# Altium footprint library Connectors.PcbLib: 26 footprints (part 1 of 2)
Each footprint in its own frame and in the unit in brackets; x right, y up, seen from the top. Pads: shape width x height; smd on the part's side, far side on the other; paste and mask are expansions set on the pad; w line width, h text height; cw(c..) or ccw(c..) is an arc to the next point about the centre after c.
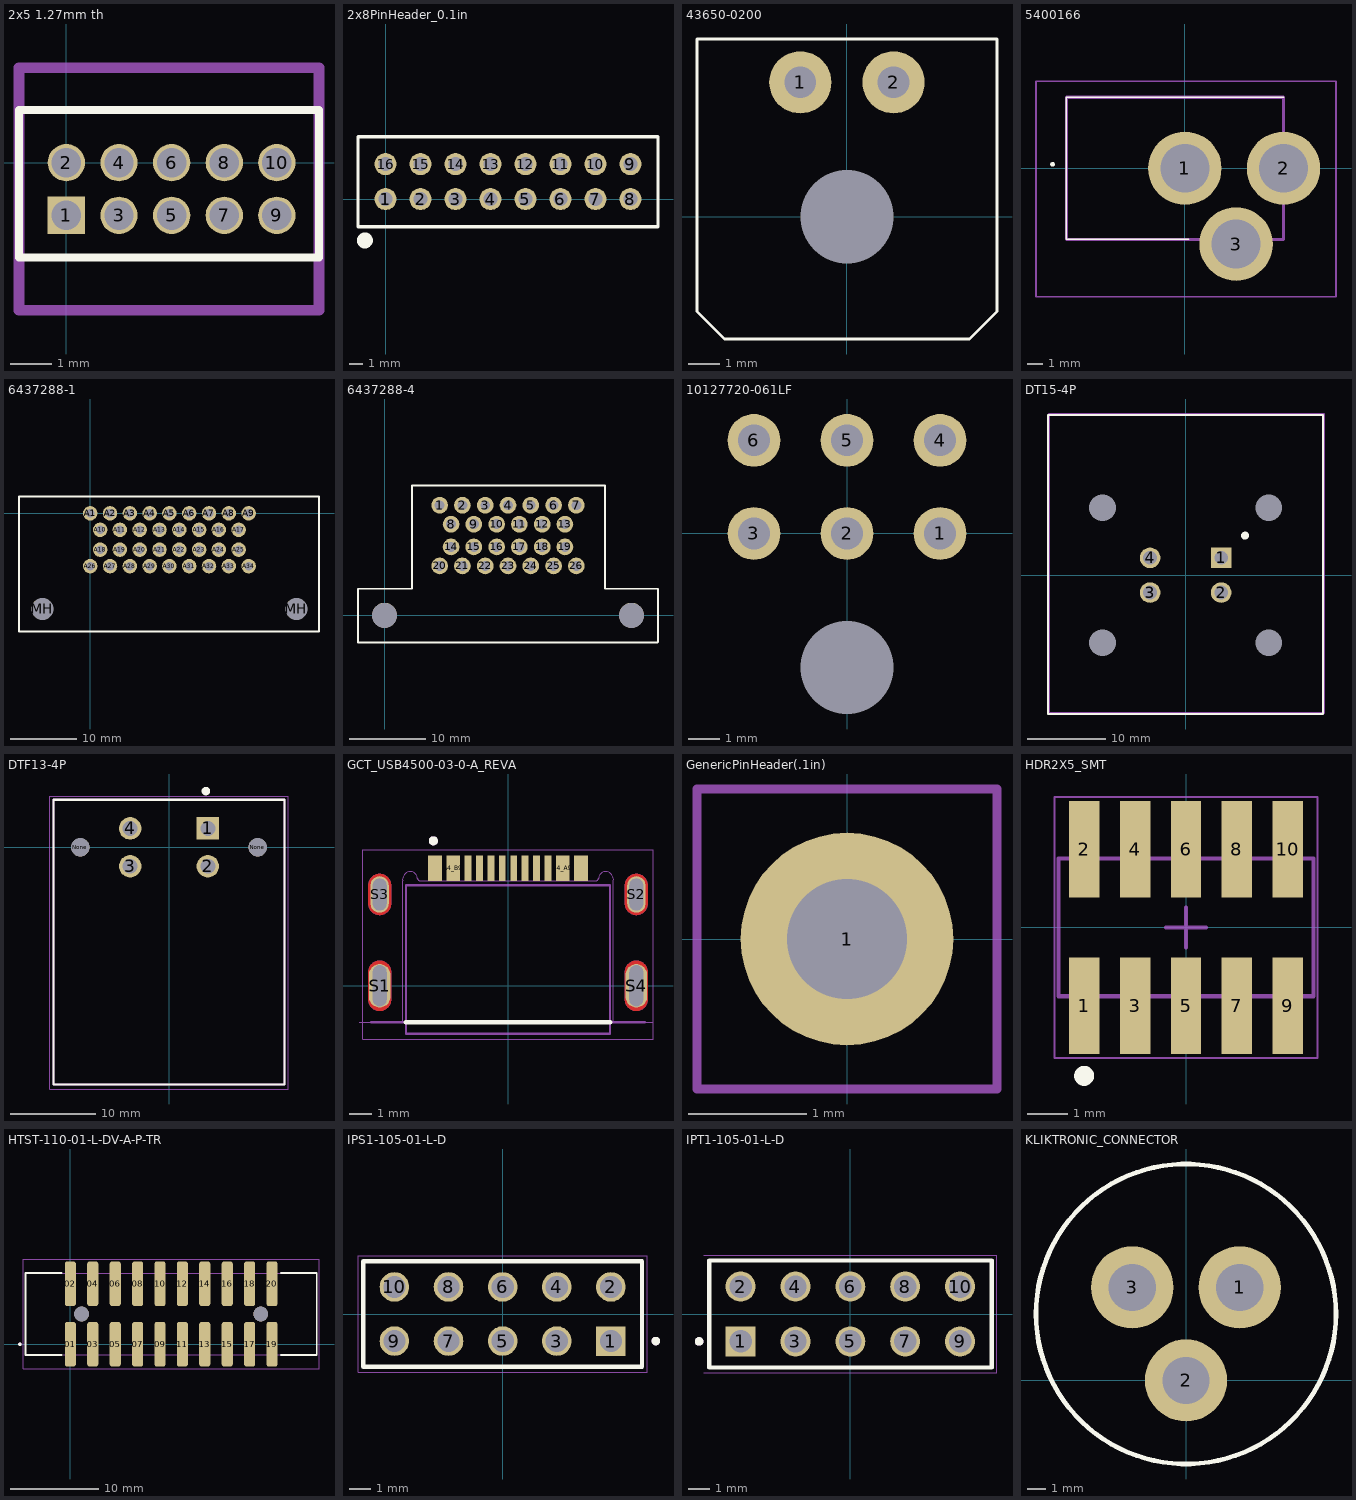
[diagram p0: the footprints below, top view; thin cyan lines are the x and y axes]

## 2x5 1.27mm th [mm]
pads (10):
  rect 0.9x0.9 hole 0.71: 1(0,-1.27)
  round 0.9 hole 0.71: 2(0,0) 3(1.27,-1.27) 4(1.27,0) 5(2.54,-1.27) 6(2.54,0) 7(3.81,-1.27) 8(3.81,0) 9(5.08,-1.27) 10(5.08,0)
Top Overlay:
  lines w0.2: -1.143,-2.286 6.096,-2.286 6.096,1.27 -1.143,1.27 -1.143,-2.286
Mechanical 15:
  lines w0.254: -1.143,-3.556 -1.143,2.286 6.096,2.286 6.096,-3.556 -1.143,-3.556
3D body "FTSH-105-01-F-D-K.stp": height 5.71, standoff -2.29, extent -0.635,-3.175 5.715,1.905

## 2x8PinHeader_0.1in [mm] "Generic 2x8 (16pin) 0.1mm pitch pin header"
pads (16):
  round 1.6 hole 1.02: 1(0,0) 2(2.54,0) 3(5.08,0) 4(7.62,0) 5(10.16,0) 6(12.7,0) 7(15.24,0) 8(17.78,0) 9(17.78,2.54) 10(15.24,2.54) 11(12.7,2.54) 12(10.16,2.54) 13(7.62,2.54) 14(5.08,2.54) 15(2.54,2.54) 16(0,2.54)
Top Overlay:
  circle w1: c-1.5,-3 r0.075
  lines w0.254: -2,-2 -2,4.54 19.78,4.54 19.78,-2 -2,-2
3D body "PPTC082LFBN-RC.STEP": height 8.5, standoff -3.2, extent -1.3,-1.2 19.52,3.8

## 43650-0200 [mm] "MOLEX-43650-0200, 2PIN"
height 5.6
pads (3):
  round 2 hole 1.02: 1(-1.5,4.32) 2(1.5,4.32)
  round 0 hole 3 unplated: MH(0,0)
Top Overlay:
  lines w0.1: -4.822,-3.052 -4.822,5.715 4.826,5.715 4.826,-3.05 3.941,-3.935 -3.939,-3.935 -4.822,-3.052
3D body "436500200.stp": height 5.62, standoff -3.29, extent -4.825,-4.58 4.825,5.32

## 5400166 [mm]
pads (3):
  round 4.65 hole 3.1: 1(0,0) 2(6.25,0) 3(3.25,-4.8)
Top Overlay:
  lines w0.1: -7.5,-4.5 -7.5,4.5 ; -7.5,-4.5 -7.5,4.5 ; -7.5,-4.5 0.25,-4.5 -7.5,-4.5 ; -7.5,4.5 6.25,4.5 -7.5,4.5
  lines w0.2: -8.425,0.25 ccw(c-8.375,0.25) -8.325,0.25 ; -8.425,0.25 cw(c-8.375,0.25) -8.325,0.25 ; -8.425,0.25 ccw(c-8.375,0.25) -8.325,0.25
Mechanical 13:
  lines w0.2: -7.5,-4.5 6.25,-4.5 6.25,4.5 -7.5,4.5 -7.5,-4.5
Mechanical 15:
  lines w0.1: -9.425,-8.125 9.575,-8.125 9.575,5.5 -9.425,5.5 -9.425,-8.125
3D body "54-00166.stp": height 11.3, standoff -5, extent -7.5,-6.239 7.7,4.5

## 6437288-1 [mm]
pads (36):
  round 2.2 hole 1.3: A1(0,0) A2(3,0) A3(6,0) A4(9,0) A5(12,0) A6(15,0) A7(18,0) A8(21,0) A9(24,0) A10(1.5,-2.5) A11(4.5,-2.5) A12(7.5,-2.5) A13(10.5,-2.5) A14(13.5,-2.5) A15(16.5,-2.5) A16(19.5,-2.5) A17(22.5,-2.5) A18(1.5,-5.5) A19(4.5,-5.5) A20(7.5,-5.5) A21(10.5,-5.5) A22(13.5,-5.5) A23(16.5,-5.5) A24(19.5,-5.5) A25(22.5,-5.5) A26(0,-8) A27(3,-8) A28(6,-8) A29(9,-8) A30(12,-8) A31(15,-8) A32(18,-8) A33(21,-8) A34(24,-8)
  round 3.3 hole 3.3 unplated: MH(-7.25,-14.5) MH(31.25,-14.5)
Top Overlay:
  lines w0.254: -10.795,-17.907 34.671,-17.907 34.671,2.54 -10.795,2.54 -10.795,-17.907
3D body "c-6437288-1-c-3d.stp": height 28.16, standoff -3.99, extent -10.75,-34 34.75,2.5

## 6437288-4 [mm]
pads (28):
  round 2.2 hole 1.3: 1(7.25,14.5) 2(10.25,14.5) 3(13.25,14.5) 4(16.25,14.5) 5(19.25,14.5) 6(22.25,14.5) 7(25.25,14.5) 8(8.75,12) 9(11.75,12) 10(14.75,12) 11(17.75,12) 12(20.75,12) 13(23.75,12) 14(8.75,9) 15(11.75,9) 16(14.75,9) 17(17.75,9) 18(20.75,9) 19(23.75,9) 20(7.25,6.5) 21(10.25,6.5) 22(13.25,6.5) 23(16.25,6.5) 24(19.25,6.5) 25(22.25,6.5) 26(25.25,6.5)
  round 3.3 hole 3.3 unplated: ""(0,0) ""(32.5,0)
Top Overlay:
  lines w0.254: -3.5,-3.561 35.966,-3.561 ; -3.5,-3.5 -3.5,3.5 ; -3.487,3.5 3.513,3.5 ; 3.6,3.525 3.6,17.025 ; 3.607,17.074 29,17.074 ; 29,17 29,3.5 36,3.5 36,-3.5
3D body "c-6437288-4-o4-3d.stp": height 27.91, standoff -3.99, extent -3.45,-19.5 36.05,17

## 10127720-061LF [mm] "CONN HEADER R/A 6POS 3MM"
pads (7):
  round 1.7 hole 1.02: 1(3,0) 2(0,0) 3(-3,0) 4(3,3) 5(0,3) 6(-3,3)
  round 0 hole 3 unplated: ""(0,-4.32)
3D body "10127720-06xlfc.stp": height 8.65, standoff -3.2, extent -6.304,-8.925 6.296,3.325

## DT15-4P [mm]
pads (8):
  rect 2.64x2.64 hole 1.76: 1(4.56,2.225)
  round 2.64 hole 1.76: 2(4.56,-2.225) 3(-4.56,-2.225) 4(-4.56,2.225)
  round 1 hole 3.429 unplated: ""(-10.67,-8.65) ""(-10.67,8.65) ""(10.67,-8.65) ""(10.67,8.65)
Top Overlay:
  circle w0.5: c7.62,5.08 r0.25
  lines w0.254: -17.625,-17.802 -17.625,20.548 17.625,20.548 17.625,-17.802 -17.625,-17.802
Mechanical 4:
  lines w0.254: -17.523,-17.676 -17.523,20.674 ; -17.523,-17.676 17.727,-17.676 ; -17.523,-17.676 -17.523,20.674 ; -17.523,-17.676 17.727,-17.676 ; -17.523,20.674 17.727,20.674 ; -17.523,20.674 17.727,20.674 ; 17.727,-17.676 17.727,20.674 ; 17.727,-17.676 17.727,20.674
3D body "c-dt15-4p-99-3d.stp": height 30.35, standoff -3.1, extent -17.627,-17.677 17.628,20.677

## DTF13-4P [mm]
pads (6):
  rect 2.64x2.64 hole 1.76: 1(4.561,2.223)
  round 2.64 hole 1.76: 2(4.561,-2.227) 3(-4.559,-2.227) 4(-4.559,2.223)
  round 2.16 hole 2.16 unplated: None(-10.415,0) None(10.415,0)
Top Overlay:
  circle w0.5: c4.33,6.6 r0.25
  lines w0.254: -13.59,-27.88 13.59,-27.88 13.59,5.58 -13.59,5.58 -13.59,-27.88
Mechanical 4:
  lines w0.254: -13.59,-27.88 13.59,-27.88 ; -13.59,-27.88 -13.59,5.58 ; -13.59,-27.88 13.59,-27.88 ; -13.59,-27.88 -13.59,5.58 ; -13.59,5.58 13.59,5.58 ; -13.59,5.58 13.59,5.58 ; 13.59,-27.88 13.59,5.58 ; 13.59,-27.88 13.59,5.58
Mechanical 15:
  lines w0.05: -14,-28.4 -14,6 14,6 14,-28.4 -14,-28.4
3D body "DTF13-4P.stp": height 23.53, standoff -3.04, extent -13.589,-27.94 13.589,5.525

## GCT_USB4500-03-0-A_REVA [mm]
pads (16):
  rect 0.6x1.1 smd: A1_B12(-3.2,5.15) A4_B9(-2.4,5.15) B1_A12(3.2,5.15) B4_A9(2.4,5.15)
  rect 0.3x1.1 smd: A5(-1.25,5.15) A6(-0.25,5.15) A7(0.25,5.15) A8(1.25,5.15) B5(1.75,5.15) B6(0.75,5.15) B7(-0.75,5.15) B8(-1.75,5.15)
  oval 0.95x1.9 hole 0.6 slot 1.8 at 90 deg mask+0: S1(-5.62,0) S4(5.62,0)
  oval 0.8x1.6 hole 0.6 slot 1.4 at 90 deg mask+0: S2(5.62,4) S3(-5.62,4)
Top Layer:
  region: 5.646,1.099 5.672,1.097 5.698,1.094 5.724,1.089 5.749,1.083 5.775,1.076 5.799,1.067 5.823,1.057 5.847,1.046 5.87,1.033 5.892,1.019 5.914,1.005 5.935,0.989 5.955,0.972 5.974,0.954 5.992,0.935 6.009,0.915 6.025,0.894 6.039,0.872 6.053,0.85 6.066,0.827 6.077,0.803 6.087,0.779 6.096,0.755 6.103,0.729 6.109,0.704 6.114,0.678 6.117,0.652 6.119,0.626 6.12,0.6 6.12,-0.6 6.119,-0.626 6.117,-0.652 6.114,-0.678 6.109,-0.704 6.103,-0.729 6.096,-0.755 6.087,-0.779 6.077,-0.803 6.066,-0.827 6.053,-0.85 6.039,-0.872 6.025,-0.894 6.009,-0.915 5.992,-0.935 5.974,-0.954 5.955,-0.972 5.935,-0.989 5.914,-1.005 5.892,-1.019 5.87,-1.033 5.847,-1.046 5.823,-1.057 5.799,-1.067 5.775,-1.076 5.749,-1.083 5.724,-1.089 5.698,-1.094 5.672,-1.097 5.646,-1.099 5.62,-1.1 5.594,-1.099 5.568,-1.097 5.542,-1.094 5.516,-1.089 5.491,-1.083 5.465,-1.076 5.441,-1.067 5.417,-1.057 5.393,-1.046 5.37,-1.033 5.348,-1.019 5.326,-1.005 5.305,-0.989 5.285,-0.972 5.266,-0.954 5.248,-0.935 5.231,-0.915 5.215,-0.894 5.201,-0.872 5.187,-0.85 5.174,-0.827 5.163,-0.803 5.153,-0.779 5.144,-0.755 5.137,-0.729 5.131,-0.704 5.126,-0.678 5.123,-0.652 5.121,-0.626 5.12,-0.6 5.12,0.6 5.121,0.626 5.123,0.652 5.126,0.678 5.131,0.704 5.137,0.729 5.144,0.755 5.153,0.779 5.163,0.803 5.174,0.827 5.187,0.85 5.201,0.872 5.215,0.894 5.231,0.915 5.248,0.935 5.266,0.954 5.285,0.972 5.305,0.989 5.326,1.005 5.348,1.019 5.37,1.033 5.393,1.046 5.417,1.057 5.441,1.067 5.465,1.076 5.491,1.083 5.516,1.089 5.542,1.094 5.568,1.097 5.594,1.099 5.62,1.1
  region: -5.594,1.099 -5.568,1.097 -5.542,1.094 -5.516,1.089 -5.491,1.083 -5.465,1.076 -5.441,1.067 -5.417,1.057 -5.393,1.046 -5.37,1.033 -5.348,1.019 -5.326,1.005 -5.305,0.989 -5.285,0.972 -5.266,0.954 -5.248,0.935 -5.231,0.915 -5.215,0.894 -5.201,0.872 -5.187,0.85 -5.174,0.827 -5.163,0.803 -5.153,0.779 -5.144,0.755 -5.137,0.729 -5.131,0.704 -5.126,0.678 -5.123,0.652 -5.121,0.626 -5.12,0.6 -5.12,-0.6 -5.121,-0.626 -5.123,-0.652 -5.126,-0.678 -5.131,-0.704 -5.137,-0.729 -5.144,-0.755 -5.153,-0.779 -5.163,-0.803 -5.174,-0.827 -5.187,-0.85 -5.201,-0.872 -5.215,-0.894 -5.231,-0.915 -5.248,-0.935 -5.266,-0.954 -5.285,-0.972 -5.305,-0.989 -5.326,-1.005 -5.348,-1.019 -5.37,-1.033 -5.393,-1.046 -5.417,-1.057 -5.441,-1.067 -5.465,-1.076 -5.491,-1.083 -5.516,-1.089 -5.542,-1.094 -5.568,-1.097 -5.594,-1.099 -5.62,-1.1 -5.646,-1.099 -5.672,-1.097 -5.698,-1.094 -5.724,-1.089 -5.749,-1.083 -5.775,-1.076 -5.799,-1.067 -5.823,-1.057 -5.847,-1.046 -5.87,-1.033 -5.892,-1.019 -5.914,-1.005 -5.935,-0.989 -5.955,-0.972 -5.974,-0.954 -5.992,-0.935 -6.009,-0.915 -6.025,-0.894 -6.039,-0.872 -6.053,-0.85 -6.066,-0.827 -6.077,-0.803 -6.087,-0.779 -6.096,-0.755 -6.103,-0.729 -6.109,-0.704 -6.114,-0.678 -6.117,-0.652 -6.119,-0.626 -6.12,-0.6 -6.12,0.6 -6.119,0.626 -6.117,0.652 -6.114,0.678 -6.109,0.704 -6.103,0.729 -6.096,0.755 -6.087,0.779 -6.077,0.803 -6.066,0.827 -6.053,0.85 -6.039,0.872 -6.025,0.894 -6.009,0.915 -5.992,0.935 -5.974,0.954 -5.955,0.972 -5.935,0.989 -5.914,1.005 -5.892,1.019 -5.87,1.033 -5.847,1.046 -5.823,1.057 -5.799,1.067 -5.775,1.076 -5.749,1.083 -5.724,1.089 -5.698,1.094 -5.672,1.097 -5.646,1.099 -5.62,1.1
  region: 5.646,4.899 5.672,4.897 5.698,4.894 5.724,4.889 5.749,4.883 5.775,4.876 5.799,4.867 5.823,4.857 5.847,4.846 5.87,4.833 5.892,4.819 5.914,4.805 5.935,4.789 5.955,4.772 5.974,4.754 5.992,4.735 6.009,4.715 6.025,4.694 6.039,4.672 6.053,4.65 6.066,4.627 6.077,4.603 6.087,4.579 6.096,4.555 6.103,4.529 6.109,4.504 6.114,4.478 6.117,4.452 6.119,4.426 6.12,4.4 6.12,3.6 6.119,3.574 6.117,3.548 6.114,3.522 6.109,3.496 6.103,3.471 6.096,3.445 6.087,3.421 6.077,3.397 6.066,3.373 6.053,3.35 6.039,3.328 6.025,3.306 6.009,3.285 5.992,3.265 5.974,3.246 5.955,3.228 5.935,3.211 5.914,3.195 5.892,3.181 5.87,3.167 5.847,3.154 5.823,3.143 5.799,3.133 5.775,3.124 5.749,3.117 5.724,3.111 5.698,3.106 5.672,3.103 5.646,3.101 5.62,3.1 5.594,3.101 5.568,3.103 5.542,3.106 5.516,3.111 5.491,3.117 5.465,3.124 5.441,3.133 5.417,3.143 5.393,3.154 5.37,3.167 5.348,3.181 5.326,3.195 5.305,3.211 5.285,3.228 5.266,3.246 5.248,3.265 5.231,3.285 5.215,3.306 5.201,3.328 5.187,3.35 5.174,3.373 5.163,3.397 5.153,3.421 5.144,3.445 5.137,3.471 5.131,3.496 5.126,3.522 5.123,3.548 5.121,3.574 5.12,3.6 5.12,4.4 5.121,4.426 5.123,4.452 5.126,4.478 5.131,4.504 5.137,4.529 5.144,4.555 5.153,4.579 5.163,4.603 5.174,4.627 5.187,4.65 5.201,4.672 5.215,4.694 5.231,4.715 5.248,4.735 5.266,4.754 5.285,4.772 5.305,4.789 5.326,4.805 5.348,4.819 5.37,4.833 5.393,4.846 5.417,4.857 5.441,4.867 5.465,4.876 5.491,4.883 5.516,4.889 5.542,4.894 5.568,4.897 5.594,4.899 5.62,4.9
  region: -5.594,4.899 -5.568,4.897 -5.542,4.894 -5.516,4.889 -5.491,4.883 -5.465,4.876 -5.441,4.867 -5.417,4.857 -5.393,4.846 -5.37,4.833 -5.348,4.819 -5.326,4.805 -5.305,4.789 -5.285,4.772 -5.266,4.754 -5.248,4.735 -5.231,4.715 -5.215,4.694 -5.201,4.672 -5.187,4.65 -5.174,4.627 -5.163,4.603 -5.153,4.579 -5.144,4.555 -5.137,4.529 -5.131,4.504 -5.126,4.478 -5.123,4.452 -5.121,4.426 -5.12,4.4 -5.12,3.6 -5.121,3.574 -5.123,3.548 -5.126,3.522 -5.131,3.496 -5.137,3.471 -5.144,3.445 -5.153,3.421 -5.163,3.397 -5.174,3.373 -5.187,3.35 -5.201,3.328 -5.215,3.306 -5.231,3.285 -5.248,3.265 -5.266,3.246 -5.285,3.228 -5.305,3.211 -5.326,3.195 -5.348,3.181 -5.37,3.167 -5.393,3.154 -5.417,3.143 -5.441,3.133 -5.465,3.124 -5.491,3.117 -5.516,3.111 -5.542,3.106 -5.568,3.103 -5.594,3.101 -5.62,3.1 -5.646,3.101 -5.672,3.103 -5.698,3.106 -5.724,3.111 -5.749,3.117 -5.775,3.124 -5.799,3.133 -5.823,3.143 -5.847,3.154 -5.87,3.167 -5.892,3.181 -5.914,3.195 -5.935,3.211 -5.955,3.228 -5.974,3.246 -5.992,3.265 -6.009,3.285 -6.025,3.306 -6.039,3.328 -6.053,3.35 -6.066,3.373 -6.077,3.397 -6.087,3.421 -6.096,3.445 -6.103,3.471 -6.109,3.496 -6.114,3.522 -6.117,3.548 -6.119,3.574 -6.12,3.6 -6.12,4.4 -6.119,4.426 -6.117,4.452 -6.114,4.478 -6.109,4.504 -6.103,4.529 -6.096,4.555 -6.087,4.579 -6.077,4.603 -6.066,4.627 -6.053,4.65 -6.039,4.672 -6.025,4.694 -6.009,4.715 -5.992,4.735 -5.974,4.754 -5.955,4.772 -5.935,4.789 -5.914,4.805 -5.892,4.819 -5.87,4.833 -5.847,4.846 -5.823,4.857 -5.799,4.867 -5.775,4.876 -5.749,4.883 -5.724,4.889 -5.698,4.894 -5.672,4.897 -5.646,4.899 -5.62,4.9
Bottom Layer:
  region: -5.594,1.099 -5.568,1.097 -5.542,1.094 -5.516,1.089 -5.491,1.083 -5.465,1.076 -5.441,1.067 -5.417,1.057 -5.393,1.046 -5.37,1.033 -5.348,1.019 -5.326,1.005 -5.305,0.989 -5.285,0.972 -5.266,0.954 -5.248,0.935 -5.231,0.915 -5.215,0.894 -5.201,0.872 -5.187,0.85 -5.174,0.827 -5.163,0.803 -5.153,0.779 -5.144,0.755 -5.137,0.729 -5.131,0.704 -5.126,0.678 -5.123,0.652 -5.121,0.626 -5.12,0.6 -5.12,-0.6 -5.121,-0.626 -5.123,-0.652 -5.126,-0.678 -5.131,-0.704 -5.137,-0.729 -5.144,-0.755 -5.153,-0.779 -5.163,-0.803 -5.174,-0.827 -5.187,-0.85 -5.201,-0.872 -5.215,-0.894 -5.231,-0.915 -5.248,-0.935 -5.266,-0.954 -5.285,-0.972 -5.305,-0.989 -5.326,-1.005 -5.348,-1.019 -5.37,-1.033 -5.393,-1.046 -5.417,-1.057 -5.441,-1.067 -5.465,-1.076 -5.491,-1.083 -5.516,-1.089 -5.542,-1.094 -5.568,-1.097 -5.594,-1.099 -5.62,-1.1 -5.646,-1.099 -5.672,-1.097 -5.698,-1.094 -5.724,-1.089 -5.749,-1.083 -5.775,-1.076 -5.799,-1.067 -5.823,-1.057 -5.847,-1.046 -5.87,-1.033 -5.892,-1.019 -5.914,-1.005 -5.935,-0.989 -5.955,-0.972 -5.974,-0.954 -5.992,-0.935 -6.009,-0.915 -6.025,-0.894 -6.039,-0.872 -6.053,-0.85 -6.066,-0.827 -6.077,-0.803 -6.087,-0.779 -6.096,-0.755 -6.103,-0.729 -6.109,-0.704 -6.114,-0.678 -6.117,-0.652 -6.119,-0.626 -6.12,-0.6 -6.12,0.6 -6.119,0.626 -6.117,0.652 -6.114,0.678 -6.109,0.704 -6.103,0.729 -6.096,0.755 -6.087,0.779 -6.077,0.803 -6.066,0.827 -6.053,0.85 -6.039,0.872 -6.025,0.894 -6.009,0.915 -5.992,0.935 -5.974,0.954 -5.955,0.972 -5.935,0.989 -5.914,1.005 -5.892,1.019 -5.87,1.033 -5.847,1.046 -5.823,1.057 -5.799,1.067 -5.775,1.076 -5.749,1.083 -5.724,1.089 -5.698,1.094 -5.672,1.097 -5.646,1.099 -5.62,1.1
  region: 5.646,1.099 5.672,1.097 5.698,1.094 5.724,1.089 5.749,1.083 5.775,1.076 5.799,1.067 5.823,1.057 5.847,1.046 5.87,1.033 5.892,1.019 5.914,1.005 5.935,0.989 5.955,0.972 5.974,0.954 5.992,0.935 6.009,0.915 6.025,0.894 6.039,0.872 6.053,0.85 6.066,0.827 6.077,0.803 6.087,0.779 6.096,0.755 6.103,0.729 6.109,0.704 6.114,0.678 6.117,0.652 6.119,0.626 6.12,0.6 6.12,-0.6 6.119,-0.626 6.117,-0.652 6.114,-0.678 6.109,-0.704 6.103,-0.729 6.096,-0.755 6.087,-0.779 6.077,-0.803 6.066,-0.827 6.053,-0.85 6.039,-0.872 6.025,-0.894 6.009,-0.915 5.992,-0.935 5.974,-0.954 5.955,-0.972 5.935,-0.989 5.914,-1.005 5.892,-1.019 5.87,-1.033 5.847,-1.046 5.823,-1.057 5.799,-1.067 5.775,-1.076 5.749,-1.083 5.724,-1.089 5.698,-1.094 5.672,-1.097 5.646,-1.099 5.62,-1.1 5.594,-1.099 5.568,-1.097 5.542,-1.094 5.516,-1.089 5.491,-1.083 5.465,-1.076 5.441,-1.067 5.417,-1.057 5.393,-1.046 5.37,-1.033 5.348,-1.019 5.326,-1.005 5.305,-0.989 5.285,-0.972 5.266,-0.954 5.248,-0.935 5.231,-0.915 5.215,-0.894 5.201,-0.872 5.187,-0.85 5.174,-0.827 5.163,-0.803 5.153,-0.779 5.144,-0.755 5.137,-0.729 5.131,-0.704 5.126,-0.678 5.123,-0.652 5.121,-0.626 5.12,-0.6 5.12,0.6 5.121,0.626 5.123,0.652 5.126,0.678 5.131,0.704 5.137,0.729 5.144,0.755 5.153,0.779 5.163,0.803 5.174,0.827 5.187,0.85 5.201,0.872 5.215,0.894 5.231,0.915 5.248,0.935 5.266,0.954 5.285,0.972 5.305,0.989 5.326,1.005 5.348,1.019 5.37,1.033 5.393,1.046 5.417,1.057 5.441,1.067 5.465,1.076 5.491,1.083 5.516,1.089 5.542,1.094 5.568,1.097 5.594,1.099 5.62,1.1
  region: 5.646,4.899 5.672,4.897 5.698,4.894 5.724,4.889 5.749,4.883 5.775,4.876 5.799,4.867 5.823,4.857 5.847,4.846 5.87,4.833 5.892,4.819 5.914,4.805 5.935,4.789 5.955,4.772 5.974,4.754 5.992,4.735 6.009,4.715 6.025,4.694 6.039,4.672 6.053,4.65 6.066,4.627 6.077,4.603 6.087,4.579 6.096,4.555 6.103,4.529 6.109,4.504 6.114,4.478 6.117,4.452 6.119,4.426 6.12,4.4 6.12,3.6 6.119,3.574 6.117,3.548 6.114,3.522 6.109,3.496 6.103,3.471 6.096,3.445 6.087,3.421 6.077,3.397 6.066,3.373 6.053,3.35 6.039,3.328 6.025,3.306 6.009,3.285 5.992,3.265 5.974,3.246 5.955,3.228 5.935,3.211 5.914,3.195 5.892,3.181 5.87,3.167 5.847,3.154 5.823,3.143 5.799,3.133 5.775,3.124 5.749,3.117 5.724,3.111 5.698,3.106 5.672,3.103 5.646,3.101 5.62,3.1 5.594,3.101 5.568,3.103 5.542,3.106 5.516,3.111 5.491,3.117 5.465,3.124 5.441,3.133 5.417,3.143 5.393,3.154 5.37,3.167 5.348,3.181 5.326,3.195 5.305,3.211 5.285,3.228 5.266,3.246 5.248,3.265 5.231,3.285 5.215,3.306 5.201,3.328 5.187,3.35 5.174,3.373 5.163,3.397 5.153,3.421 5.144,3.445 5.137,3.471 5.131,3.496 5.126,3.522 5.123,3.548 5.121,3.574 5.12,3.6 5.12,4.4 5.121,4.426 5.123,4.452 5.126,4.478 5.131,4.504 5.137,4.529 5.144,4.555 5.153,4.579 5.163,4.603 5.174,4.627 5.187,4.65 5.201,4.672 5.215,4.694 5.231,4.715 5.248,4.735 5.266,4.754 5.285,4.772 5.305,4.789 5.326,4.805 5.348,4.819 5.37,4.833 5.393,4.846 5.417,4.857 5.441,4.867 5.465,4.876 5.491,4.883 5.516,4.889 5.542,4.894 5.568,4.897 5.594,4.899 5.62,4.9
  region: -5.594,4.899 -5.568,4.897 -5.542,4.894 -5.516,4.889 -5.491,4.883 -5.465,4.876 -5.441,4.867 -5.417,4.857 -5.393,4.846 -5.37,4.833 -5.348,4.819 -5.326,4.805 -5.305,4.789 -5.285,4.772 -5.266,4.754 -5.248,4.735 -5.231,4.715 -5.215,4.694 -5.201,4.672 -5.187,4.65 -5.174,4.627 -5.163,4.603 -5.153,4.579 -5.144,4.555 -5.137,4.529 -5.131,4.504 -5.126,4.478 -5.123,4.452 -5.121,4.426 -5.12,4.4 -5.12,3.6 -5.121,3.574 -5.123,3.548 -5.126,3.522 -5.131,3.496 -5.137,3.471 -5.144,3.445 -5.153,3.421 -5.163,3.397 -5.174,3.373 -5.187,3.35 -5.201,3.328 -5.215,3.306 -5.231,3.285 -5.248,3.265 -5.266,3.246 -5.285,3.228 -5.305,3.211 -5.326,3.195 -5.348,3.181 -5.37,3.167 -5.393,3.154 -5.417,3.143 -5.441,3.133 -5.465,3.124 -5.491,3.117 -5.516,3.111 -5.542,3.106 -5.568,3.103 -5.594,3.101 -5.62,3.1 -5.646,3.101 -5.672,3.103 -5.698,3.106 -5.724,3.111 -5.749,3.117 -5.775,3.124 -5.799,3.133 -5.823,3.143 -5.847,3.154 -5.87,3.167 -5.892,3.181 -5.914,3.195 -5.935,3.211 -5.955,3.228 -5.974,3.246 -5.992,3.265 -6.009,3.285 -6.025,3.306 -6.039,3.328 -6.053,3.35 -6.066,3.373 -6.077,3.397 -6.087,3.421 -6.096,3.445 -6.103,3.471 -6.109,3.496 -6.114,3.522 -6.117,3.548 -6.119,3.574 -6.12,3.6 -6.12,4.4 -6.119,4.426 -6.117,4.452 -6.114,4.478 -6.109,4.504 -6.103,4.529 -6.096,4.555 -6.087,4.579 -6.077,4.603 -6.066,4.627 -6.053,4.65 -6.039,4.672 -6.025,4.694 -6.009,4.715 -5.992,4.735 -5.974,4.754 -5.955,4.772 -5.935,4.789 -5.914,4.805 -5.892,4.819 -5.87,4.833 -5.847,4.846 -5.823,4.857 -5.799,4.867 -5.775,4.876 -5.749,4.883 -5.724,4.889 -5.698,4.894 -5.672,4.897 -5.646,4.899 -5.62,4.9
Top Overlay:
  circle w0.2: c-3.27,6.35 r0.1
  lines w0.2: -4.47,-1.6 4.47,-1.6
Top Solder:
  drawing of 4 lines, arcs and shapes, not listed
Bottom Solder:
  drawing of 4 lines, arcs and shapes, not listed
Mechanical 1:
  lines w0: -6.52,-1.6 -4.62,-1.6 -4.62,4.6 cw(c-4.257,4.637) -4.296,5 ; -4.294,5 cw(c-4.273,4.697) -3.97,4.719 ; -3.97,4.721 ccw(c-3.835,4.735) -3.821,4.6 ; -3.82,4.6 3.82,4.6 ; 3.821,4.6 ccw(c3.835,4.735) 3.97,4.721 ; 3.97,4.719 cw(c4.273,4.697) 4.294,5 ; 4.296,5 cw(c4.257,4.637) 4.62,4.599 4.62,-1.6 6.36,-1.6
Mechanical 13:
  circle w0.2: c-3.27,6.35 r0.1
  lines w0.1: -6,-1.6 6,-1.6 ; -4.47,-2.1 4.47,-2.1 4.47,4.4 -4.47,4.4 -4.47,-2.1
  text "PCB Edge" at 6.46,-1.49 h0.81
Mechanical 15:
  lines w0.05: -6.37,-2.35 6.37,-2.35 6.37,5.95 -6.37,5.95 -6.37,-2.35

## GenericPinHeader(.1in) [mm] "Generic .1in (2.54mm) pin header"
pads (1):
  round 1.8 hole 1.016: 1(0,0)
Mechanical 15:
  lines w0.076: -1.27,-1.27 -1.27,1.27 1.27,1.27 1.27,0 1.27,-1.27 -1.27,-1.27
3D body "Pin Header 1x1 TH Pitch 2.54mm.stp": height 9.5, standoff -3.2, extent -1.27,-1.27 1.27,1.27

## HDR2X5_SMT [mm] "Header, 10-Leads, Body 3.43x6.35mm, Pitch 1.27mm"
height 4.55
pads (10):
  rect 0.76x2.4 smd: 1(-2.54,-1.95) 2(-2.54,1.95) 3(-1.27,-1.95) 4(-1.27,1.95) 5(0,-1.95) 6(0,1.95) 7(1.27,-1.95) 8(1.27,1.95) 9(2.54,-1.95) 10(2.54,1.95)
Top Overlay:
  circle w0.25: c-2.54,-3.7 r0.125
Mechanical 13:
  lines w0.1: -3.175,-1.715 3.175,-1.715 3.175,1.715 -3.175,1.715 -3.175,-1.715
Mechanical 15:
  lines w0.05: -3.275,-3.25 -3.275,3.25 3.275,3.25 3.275,-3.25 -3.275,-3.25
  lines w0.1: -0.5,0 0.5,0 ; 0,-0.5 0,0.5
3D body "20021121-00010XXLFc.stp": height 4.5, standoff 0, extent -3.175,-2.75 3.175,2.75

## HTST-110-01-L-DV-A-P-TR [mm]
pads (22):
  rrect50% 1.27x5.08 smd: 01(0,0) 02(0,6.86) 03(2.54,0) 04(2.54,6.86) 05(5.08,0) 06(5.08,6.86) 07(7.62,0) 08(7.62,6.86) 09(10.16,0) 10(10.16,6.86) 11(12.7,0) 12(12.7,6.86) 13(15.24,0) 14(15.24,6.86) 15(17.78,0) 16(17.78,6.86) 17(20.32,0) 18(20.32,6.86) 19(22.86,0) 20(22.86,6.86)
  round 1.676 hole 1.676 unplated: ""(1.27,3.43) ""(21.59,3.43)
Top Overlay:
  circle w0.2: c-5.73,0 r0.1
  lines w0.2: -0.985,-1.205 -5.08,-1.205 -5.08,8.065 -0.985,8.065 ; 23.845,-1.205 27.94,-1.205 27.94,8.065 23.845,8.065
Mechanical 13:
  circle w0.2: c-5.73,0 r0.1
  lines w0.1: -5.08,-1.205 -5.08,8.065 27.94,8.065 27.94,-1.205 -5.08,-1.205
Mechanical 15:
  lines w0.05: -5.33,-2.79 -5.33,9.65 28.19,9.65 28.19,-2.79 -5.33,-2.79
3D body "HTST-110-01-L-DV-A.stp": height 10.14, standoff -1.29, extent -5.08,-2.158 27.94,9.018

## IPS1-105-01-L-D [mm]
pads (10):
  rect 1.39x1.39 hole 1.04: 1(5.08,-1.27)
  round 1.39 hole 1.04: 2(5.08,1.27) 3(2.54,-1.27) 4(2.54,1.27) 5(0,-1.27) 6(0,1.27) 7(-2.54,-1.27) 8(-2.54,1.27) 9(-5.08,-1.27) 10(-5.08,1.27)
Top Overlay:
  circle w0.2: c7.19,-1.27 r0.1
  lines w0.2: -6.54,-2.475 -6.54,2.475 6.54,2.475 6.54,-2.475 -6.54,-2.475
Mechanical 13:
  circle w0.2: c7.19,-1.27 r0.1
  lines w0.1: -6.54,-2.475 -6.54,2.475 ; -6.54,-2.475 6.54,-2.475 ; -6.54,-2.475 -6.54,2.475 ; -6.54,2.475 6.54,2.475 ; -6.54,2.475 6.54,2.475 ; 6.54,-2.475 6.54,2.475 ; 6.54,-2.475 6.54,2.475
Mechanical 15:
  lines w0.05: -6.79,-2.725 -6.79,2.725 6.79,2.725 6.79,-2.725 -6.79,-2.725
3D body "IPS1-105-01-L-D.stp": height 8.51, standoff -2.54, extent -6.54,-2.476 6.54,2.476

## IPT1-105-01-L-D [mm]
pads (10):
  rect 1.39x1.39 hole 1.04: 1(-5.08,-1.27)
  round 1.39 hole 1.04: 2(-5.08,1.27) 3(-2.54,-1.27) 4(-2.54,1.27) 5(0,-1.27) 6(0,1.27) 7(2.54,-1.27) 8(2.54,1.27) 9(5.08,-1.27) 10(5.08,1.27)
Top Overlay:
  circle w0.2: c-7,-1.27 r0.1
  lines w0.2: -6.54,-2.475 -6.54,2.475 6.54,2.475 6.54,-2.475 -6.54,-2.475
Mechanical 13:
  circle w0.2: c-7,-1.27 r0.1
  lines w0.1: -6.54,-2.475 -6.54,2.475 ; -6.54,-2.475 6.54,-2.475 ; -6.54,-2.475 -6.54,2.475 ; -6.54,2.475 6.54,2.475 ; -6.54,2.475 6.54,2.475 ; 6.54,-2.475 6.54,2.475 ; 6.54,-2.475 6.54,2.475
Mechanical 15:
  lines w0.05: -6.79,-2.725 6.79,-2.725 ; -6.79,2.725 6.79,2.725 ; 6.79,-2.725 6.79,2.725 ; 6.79,-2.725 6.79,2.725
3D body "IPT1-105-01-L-D.stp": height 6.35, standoff -2.16, extent -6.604,-2.54 6.604,2.54

## KLIKTRONIC_CONNECTOR [mm]
pads (3):
  round 4.4 hole 2.53: 1(2.875,4.98) 2(0,0) 3(-2.875,4.98)
Top Overlay:
  circle w0.254: c0,3.556 r8.026
3D body: height 6.89, standoff 4.5, extent -10.66,-7.104 10.66,14.216
3D body: height 15.56, standoff 0, extent -8,-4.444 8,11.556